# Altium schematic symbol library SchemSymbolsGoogle.SchLib: 8 symbols
Pins are listed as number, name and electrical type; pins without a type are passive.

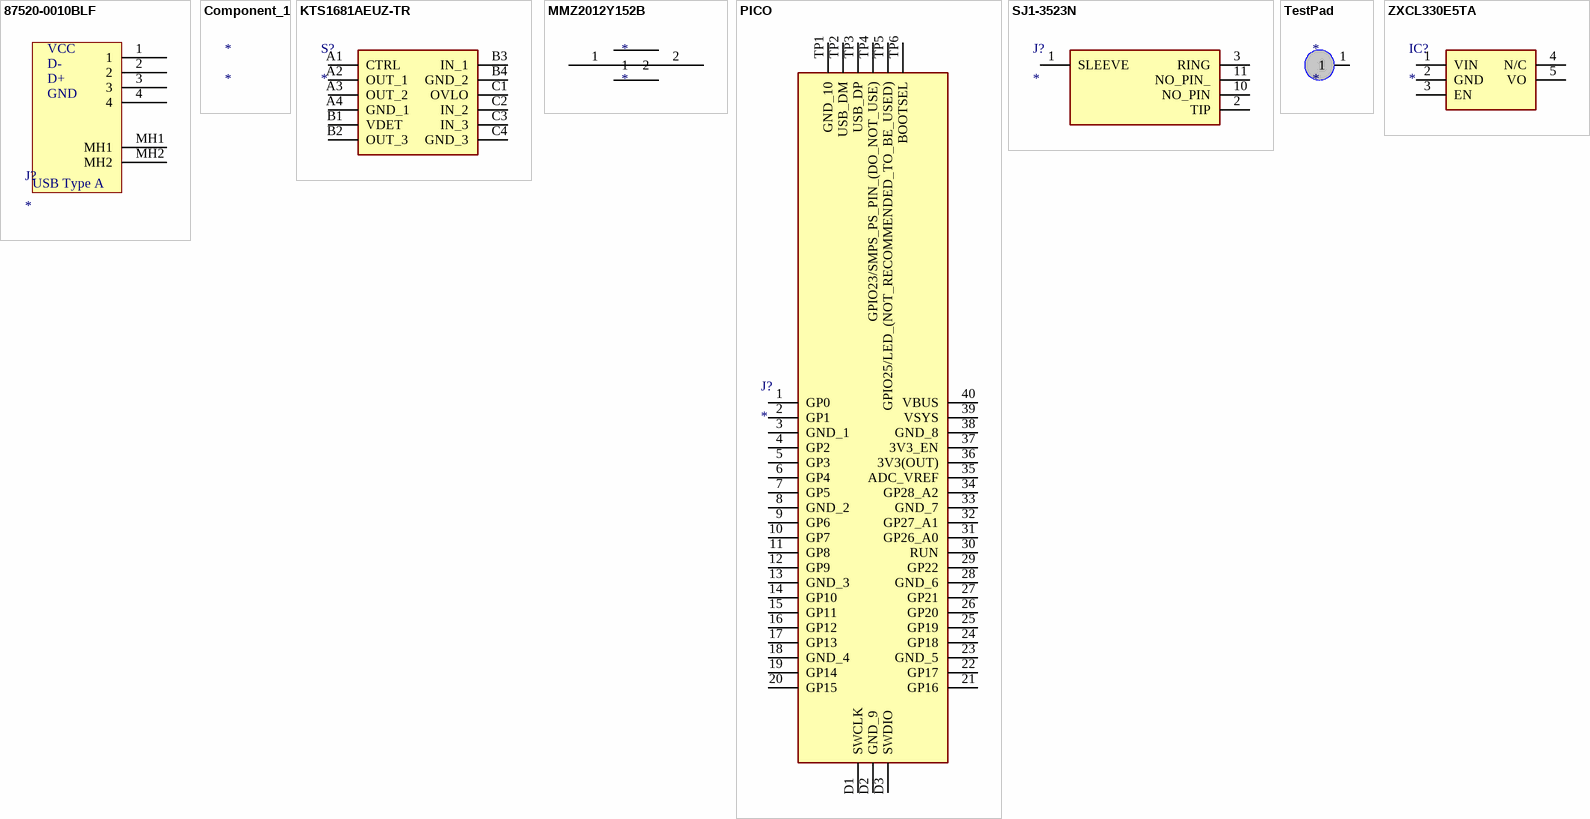
[diagram p0: symbols 87520-0010BLF to ZXCL330E5TA]

## 87520-0010BLF
designator J?
footprint 875200010BLF
pins: 1, 2, 3, 4, MH1, MH2
text: VCC; D-; D+; GND; USB Type A

## Component_1
designator *

## KTS1681AEUZ-TR
designator S?
Switch; Manufacturer_Name: Kinetic Technologies; Manufacturer_Part_Number: KTS1681AEUZ-TR; Description: Power Switch ICs - Power Distribution Overvoltage Protected Load Switch with +100V Surge Protection; Height: 0.665mm
footprint KTS1681AEUZTR
pins: A1 CTRL, A2 OUT_1, A3 OUT_2, A4 GND_1, B1 VDET, B2 OUT_3, B3 IN_1, B4 GND_2, C1 OVLO, C2 IN_2, C3 IN_3, C4 GND_3

## MMZ2012Y152B
designator *
footprint BEADC2012X105N
pins: 1, 2

## PICO
designator J?
Connector; Manufacturer_Name: RASPBERRY-PI; Manufacturer_Part_Number: PICO; Description: RP2040 microcontroller chip designed by Raspberry Pi in the United Kingdom 2  SPI; Datasheet Link: https://datasheets.raspberrypi.org/pico/pico_datasheet.pdf; Height: 1mm
footprint PICO
pins: 1 GP0, 2 GP1, 3 GND_1, 4 GP2, 5 GP3, 6 GP4, 7 GP5, 8 GND_2, 9 GP6, 10 GP7, 11 GP8, 12 GP9, 13 GND_3, 14 GP10, 15 GP11, 16 GP12, 17 GP13, 18 GND_4, 19 GP14, 20 GP15, 21 GP16, 22 GP17, 23 GND_5, 24 GP18, 25 GP19, 26 GP20, 27 GP21, 28 GND_6, 29 GP22, 30 RUN, 31 GP26_A0, 32 GP27_A1, 33 GND_7, 34 GP28_A2, 35 ADC_VREF, 36 3V3(OUT), 37 3V3_EN, 38 GND_8, 39 VSYS, 40 VBUS, D1 SWCLK, D2 GND_9, D3 SWDIO, TP1 GND_10, TP2 USB_DM, TP3 USB_DP, TP4 GPIO23/SMPS_PS_PIN_(DO_NOT_USE), TP5 GPIO25/LED_(NOT_RECOMMENDED_TO_BE_USED), TP6 BOOTSEL

## SJ1-3523N
designator J?
Connector; Manufacturer_Name: CUI Inc.; Manufacturer_Part_Number: SJ1-3523N; Description: Phone Connectors 3.5 MM AUDIO JACK; Datasheet Link: https://componentsearchengine.com/Datasheets/1/SJ1-3523N.pdf; Height: 5.5mm; Mouser Part Number: 490-SJ1-3523N; Mouser Price/Stock: https://www.mouser.co.uk/ProductDetail/CUI-Devices/SJ1-3523N?qs=WyjlAZoYn50aNl0vAhb3Tg%3D%3D; Arrow Part Number: SJ1-3523N; Arrow Price/Stock: https://www.arrow.com/en/products/sj1-3523n/cui-devices
footprint SJ13523N
pins: 1 SLEEVE, 2 TIP, 3 RING, 10 NO_PIN, 11 NO_PIN_

## TestPad
designator *
footprint TestPad50mil
pins: 1

## ZXCL330E5TA
designator IC?
Integrated Circuit; Manufacturer_Name: Diodes Inc.; Manufacturer_Part_Number: ZXCL330E5TA; Description: DiodesZetex ZXCL330E5TA; Datasheet Link: https://componentsearchengine.com/Datasheets/2/ZXCL330E5TA.pdf; Height: 1.4mm; Mouser Part Number: 522-ZXCL330E5TA; Mouser Price/Stock: https://www.mouser.co.uk/ProductDetail/Diodes-Incorporated/ZXCL330E5TA?qs=zhx2xqPtQQw6lxByM1xVNQ%3D%3D; Arrow Part Number: ZXCL330E5TA; Arrow Price/Stock: https://www.arrow.com/en/products/zxcl330e5ta/diodes-incorporated
footprint SOT95P285X140-5N
pins: 1 VIN, 2 GND, 3 EN, 4 N/C, 5 VO